# EAGLE library part FPGA_MODILE_36PIN (library MODULES)
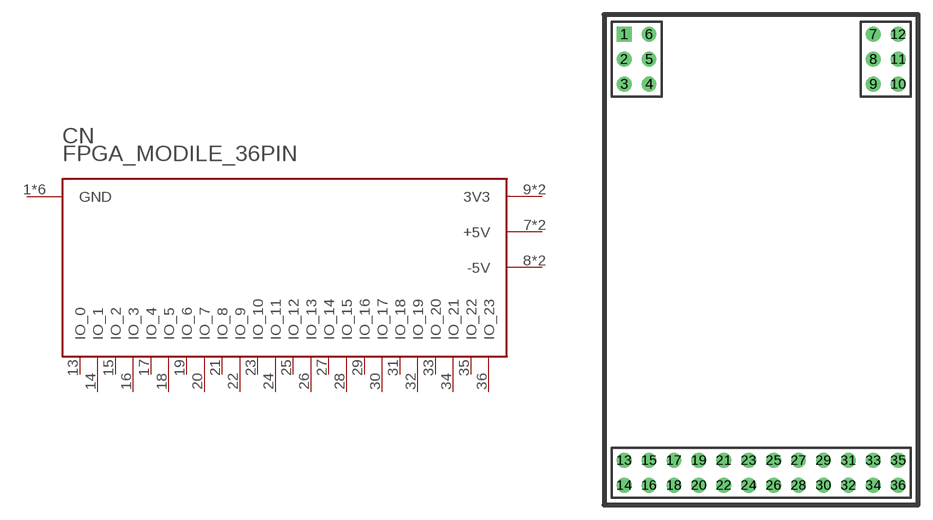
[diagram p1: symbol with the pads of FPGAMODULE; footprint FPGAMODULE]

Designator prefix CN

## FPGA_MODILE_36PIN  [FPGAMODULE]
1  GND
2  GND
3  GND
4  GND
5  GND
6  GND
7  +5V
8  -5V
9  3V3
10  3V3
11  -5V
12  +5V
13  IO_0
14  IO_1
15  IO_2
16  IO_3
17  IO_4
18  IO_5
19  IO_6
20  IO_7
21  IO_8
22  IO_9
23  IO_10
24  IO_11
25  IO_12
26  IO_13
27  IO_14
28  IO_15
29  IO_16
30  IO_17
31  IO_18
32  IO_19
33  IO_20
34  IO_21
35  IO_22
36  IO_23

## Footprint FPGAMODULE (pad centres in mm)
drill 1 pad 1.5 square: 1 -13.97,23
drill 1 pad 1.5: 2 -13.97,20.46; 3 -13.97,17.92; 4 -11.43,17.92; 5 -11.43,20.46; 6 -11.43,23; 7 11.43,23; 8 11.43,20.46; 9 11.43,17.92; 10 13.97,17.92; 11 13.97,20.46; 12 13.97,23; 13 -13.97,-20.46; 14 -13.97,-23; 15 -11.43,-20.46; 16 -11.43,-23; 17 -8.89,-20.46; 18 -8.89,-23; 19 -6.35,-20.46; 20 -6.35,-23; 21 -3.81,-20.46; 22 -3.81,-23; 23 -1.27,-20.46; 24 -1.27,-23; 25 1.27,-20.46; 26 1.27,-23; 27 3.81,-20.46; 28 3.81,-23; 29 6.35,-20.46; 30 6.35,-23; 31 8.89,-20.46; 32 8.89,-23; 33 11.43,-20.46; 34 11.43,-23; 35 13.97,-20.46; 36 13.97,-23